# EAGLE library part MSP430F2112 (library tofu)
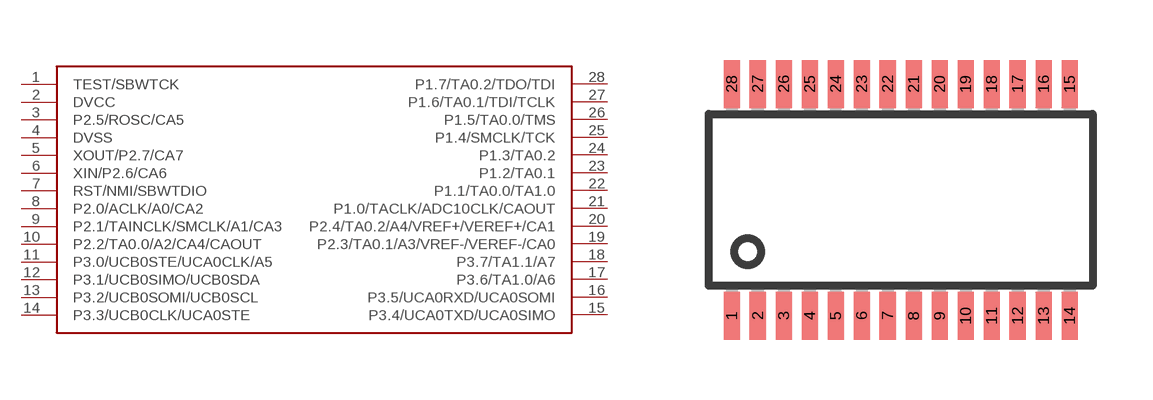
[diagram p2: symbol with the pads of PW_R-PDSO-G28; footprint PW_R-PDSO-G28]

Designator prefix -

## MSP430F2112  [PW_R-PDSO-G28]
1  TEST/SBWTCK
2  DVCC
3  P2.5/ROSC/CA5
4  DVSS
5  XOUT/P2.7/CA7
6  XIN/P2.6/CA6
7  RST/NMI/SBWTDIO
8  P2.0/ACLK/A0/CA2
9  P2.1/TAINCLK/SMCLK/A1/CA3
10  P2.2/TA0.0/A2/CA4/CAOUT
11  P3.0/UCB0STE/UCA0CLK/A5
12  P3.1/UCB0SIMO/UCB0SDA
13  P3.2/UCB0SOMI/UCB0SCL
14  P3.3/UCB0CLK/UCA0STE
15  P3.4/UCA0TXD/UCA0SIMO
16  P3.5/UCA0RXD/UCA0SOMI
17  P3.6/TA1.0/A6
18  P3.7/TA1.1/A7
19  P2.3/TA0.1/A3/VREF-/VEREF-/CA0
20  P2.4/TA0.2/A4/VREF+/VEREF+/CA1
21  P1.0/TACLK/ADC10CLK/CAOUT
22  P1.1/TA0.0/TA1.0
23  P1.2/TA0.1
24  P1.3/TA0.2
25  P1.4/SMCLK/TCK
26  P1.5/TA0.0/TMS
27  P1.6/TA0.1/TDI/TCLK
28  P1.7/TA0.2/TDO/TDI

## Footprint PW_R-PDSO-G28 (pad centres in mm)
PLASTIC SMALL-OUTLINE PACKAGE SO 28 JEDEC MO-153, PW Type Source: www.ti.com/.. slvs087l.pdf
smd 0.4 x 1.2: 1 -4.225,-2.9; 2 -3.575,-2.9; 3 -2.925,-2.9; 4 -2.275,-2.9; 5 -1.625,-2.9; 6 -0.975,-2.9; 7 -0.325,-2.9; 8 0.325,-2.9; 9 0.975,-2.9; 10 1.625,-2.9; 11 2.275,-2.9; 12 2.925,-2.9; 13 3.575,-2.9; 14 4.225,-2.9; 15 4.225,2.9; 16 3.575,2.9; 17 2.925,2.9; 18 2.275,2.9; 19 1.625,2.9; 20 0.975,2.9; 21 0.325,2.9; 22 -0.325,2.9; 23 -0.975,2.9; 24 -1.625,2.9; 25 -2.275,2.9; 26 -2.925,2.9; 27 -3.575,2.9; 28 -4.225,2.9